# Altium footprint library LOGO.PcbLib: 16 footprints
Each footprint in its own frame and in the unit in brackets; x right, y up, seen from the top. Pads: shape width x height; smd on the part's side, far side on the other; paste and mask are expansions set on the pad; w line width, h text height; cw(c..) or ccw(c..) is an arc to the next point about the centre after c.
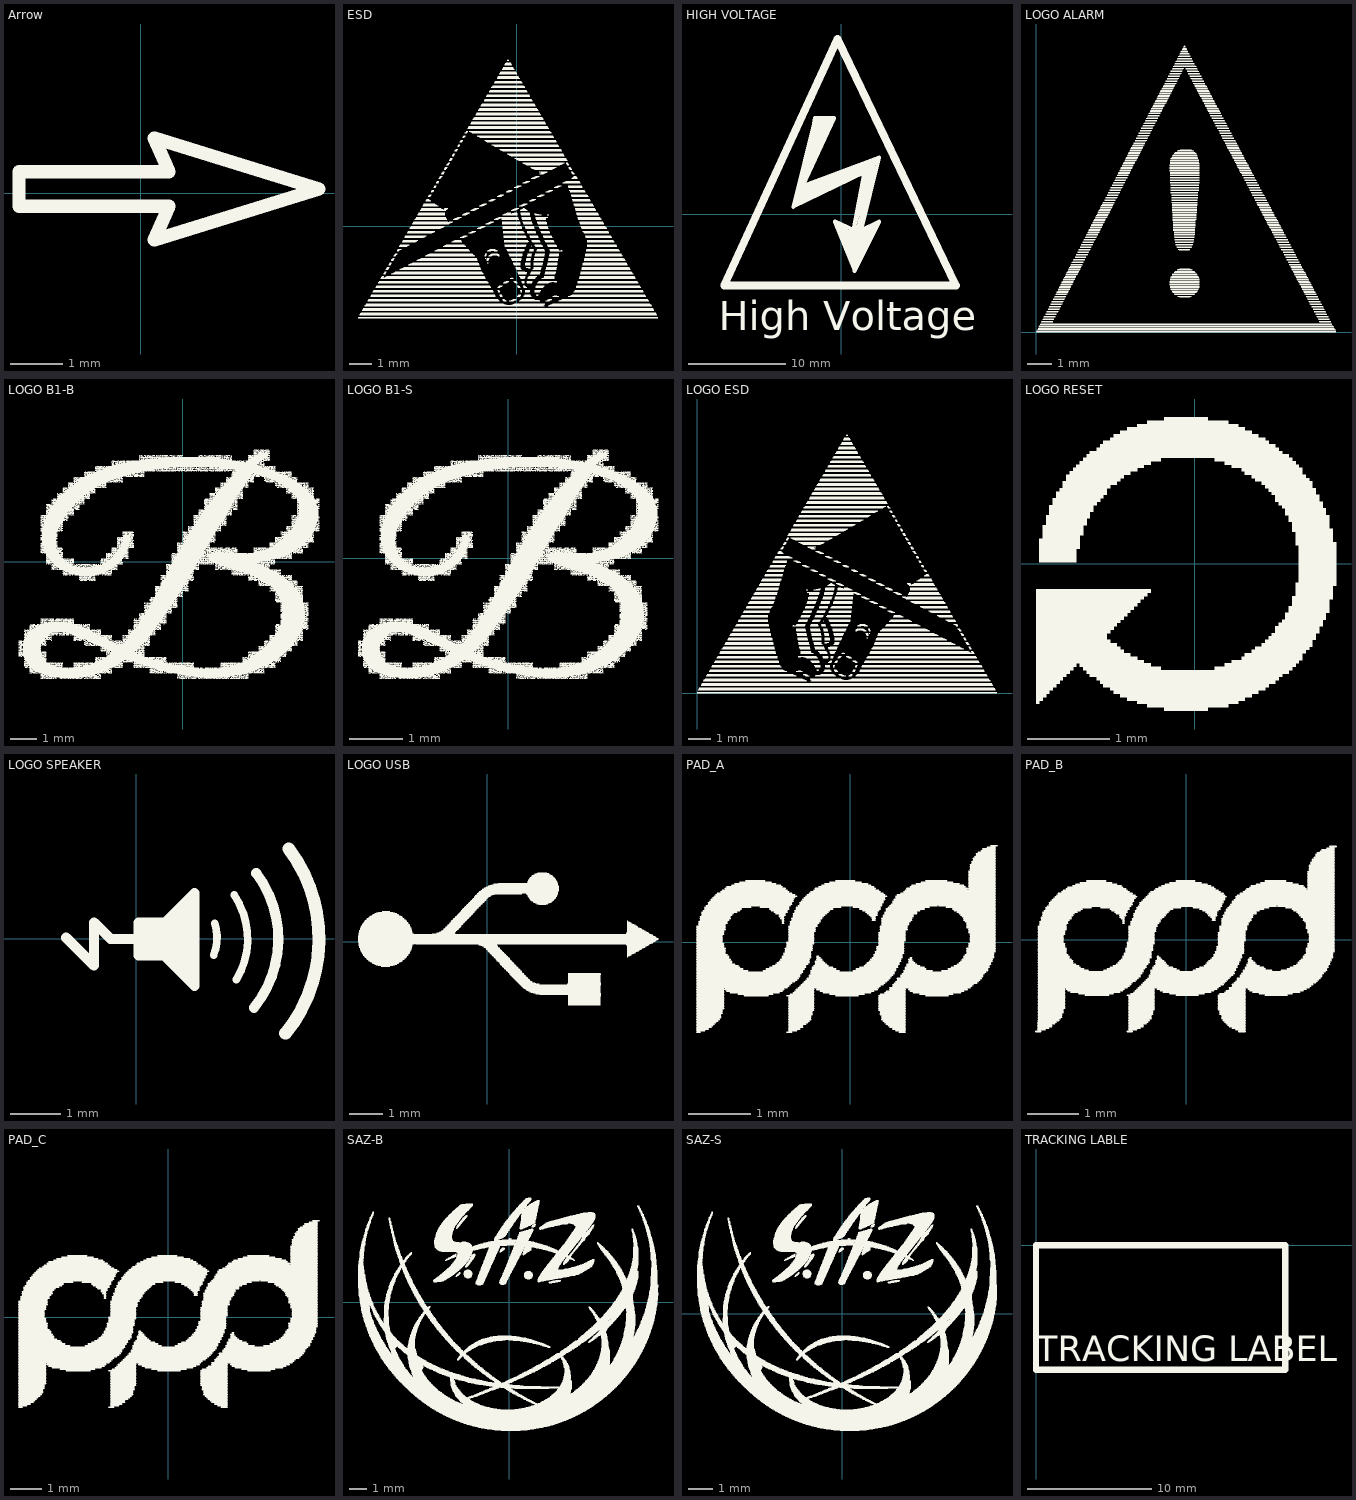
[diagram p0: the footprints below, top view; thin cyan lines are the x and y axes]

## Arrow [mm]
Top Overlay:
  lines w0.254: -2.305,-0.254 0.54,-0.254 0.261,-0.889 3.385,0.076 0.261,1.041 0.54,0.406 -2.305,0.406 ; -2.305,-0.254 -2.305,0.406 ; -2.305,-0.254 -2.305,0.406 ; -2.305,-0.254 -2.305,0.406 ; -2.305,-0.254 -2.305,0.406

## ESD [mm]
Top Overlay:
  drawing of 1681 lines, arcs and shapes, not listed

## HIGH VOLTAGE [mm]
Top Overlay:
  lines w0.4: -3.962,4.216 -4.572,1.168 3.607,5.486 -3.658,2.667 -3.886,1.905 3.124,4.978 -3.835,2.235 2.946,4.724 2.083,1.702 2.642,4.801 3.556,4.801 1.702,-1.448 1.397,-5.309 3.48,-1.245 1.346,-2.235 -0.203,-1.194 1.27,-4.902 3.048,-1.676 1.854,-2.464 1.295,-1.575 0.94,-1.753 1.524,-1.499 1.143,-2.007 1.803,-3.81 2.464,-2.235 0.33,-1.829 1.27,-4.318 0.711,-2.108 1.422,-3.886 2.159,-2.413 0.94,-2.311 1.473,-3.277 1.905,-2.642 ; -1.118,9.779 -3.327,5.232 -1.372,9.83 -3.302,6.096 -1.626,9.677 -2.362,9.627 -2.972,7.518 -1.778,9.576 -2.337,9.195 -3.962,2.87 -0.737,9.906 ; -2.692,9.906 -4.953,0.737 2.388,4.318 1.245,-1.626 ; -2.692,9.906 -4.216,1.27 3.404,5.334 1.245,-1.626 ; -2.692,9.906 -0.737,9.906 ; -0.737,9.906 -4.216,2.794 3.912,5.842 2.032,-1.676 3.912,-0.762 1.372,-5.842 -0.66,-0.762 1.245,-1.626
  lines w0.8: -12.065,-7.366 -0.381,18.034 11.811,-7.366 -12.065,-7.366
  text "High Voltage" at -12.624,-11.963 h3

## LOGO ALARM [mm]
Top Overlay:
  drawing of 1078 lines, arcs and shapes, not listed

## LOGO B1-B [mm]
Top Overlay:
  drawing of 5161 lines, arcs and shapes, not listed

## LOGO B1-S [mm]
Top Overlay:
  drawing of 5161 lines, arcs and shapes, not listed

## LOGO ESD [mm] "Electrostatic Sensiving Device"
Top Overlay:
  drawing of 1681 lines, arcs and shapes, not listed

## LOGO RESET [mm]
Top Overlay:
  drawing of 1 lines, arcs and shapes, not listed

## LOGO SPEAKER [mm]
Top Overlay:
  lines w0.152: 1.552,-0.324 ccw(c0.686,0.025) 1.574,0.314 ; 1.964,0.879 cw(c0.66,0) 2.008,-0.81
  lines w0.203: -1.397,0.025 -0.838,-0.533 -0.838,0.33 -0.508,0 0,0 ; 0.102,-0.178 0.508,-0.178 ; 0.102,-0.025 0.559,-0.025 ; 0.102,0.152 0.66,0.152 ; 0.508,-0.33 0.051,-0.33 0.051,0.33 0.559,0.33 0.559,-0.33 1.168,-0.94 1.168,0.914 0.559,0.305 ; 0.914,-0.432 0.914,0.432 ; 0.965,-0.508 0.737,-0.279 0.737,0.279 1.067,0.61 1.067,-0.66 ; 2.359,-1.376 ccw(c0.66,0) 2.406,1.315
  lines w0.254: 2.991,-1.888 ccw(c0.66,0) 3.056,1.805

## LOGO USB [mm]
Top Overlay:
  drawing of 1 lines, arcs and shapes, not listed

## PAD_A [mm]
Top Overlay:
  drawing of 415 lines, arcs and shapes, not listed

## PAD_B [mm]
Top Overlay:
  drawing of 415 lines, arcs and shapes, not listed

## PAD_C [mm]
Top Overlay:
  drawing of 415 lines, arcs and shapes, not listed

## SAZ-B [mm]
Top Overlay:
  drawing of 5508 lines, arcs and shapes, not listed

## SAZ-S [mm]
Top Overlay:
  drawing of 5508 lines, arcs and shapes, not listed

## TRACKING LABLE [mm]
Top Overlay:
  lines w0.5: 0,-10 20,-10 20,0 0,0 0,-10
  text "TRACKING LABEL" at 0,-10 h3.5